# Altium schematic symbol library IC_LM5007.Schlib: 1 symbol
Pins are listed as number, name and electrical type; pins without a type are passive.

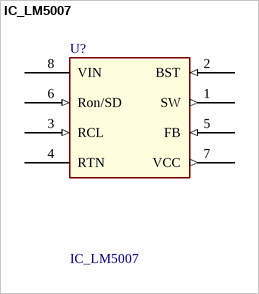
[diagram p0: symbol IC_LM5007]

## IC_LM5007
designator U?
150mA/100V step down switching regulator
pins: 1 SW (out), 2 BST (in), 3 RCL (in), 4 RTN (power), 5 FB (in), 6 Ron/SD (in), 7 VCC (out), 8 VIN (power)